# Altium integrated library WS-SLTV 10x2.5 mm THT.IntLib: 1 symbol
Pins are listed as number, name and electrical type; pins without a type are passive.

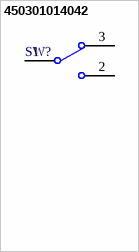
[diagram p0: symbol 450301014042]

## 450301014042
designator SW?
WS-SLTV 10mm*2.5mm, SPDT, ON-ON, 2.54mm, straight type, THT, Mini Slide Switch, 3 pins; PartNumber: 450301014042; NoPins: 06; PackageReference: 450301014042; ComponentLink1Description: Manufacturer URL; ComponentLink1URL: http://www.we-online.com; ComponentLink2Description: Datasheet; ComponentLink2URL: http://katalog.we-online.de/em/datasheet/450301014042.pdf
footprint 450301014042 (10mm*2.5mm. SPDT, ON-ON, 2.54mm, horizontal type, THT, bulk)
pins: 1, 2, 3